# Altium schematic symbol library Nucleo-64-G474.SchLib: 1 symbol
Pins are listed as number, name and electrical type; pins without a type are passive.

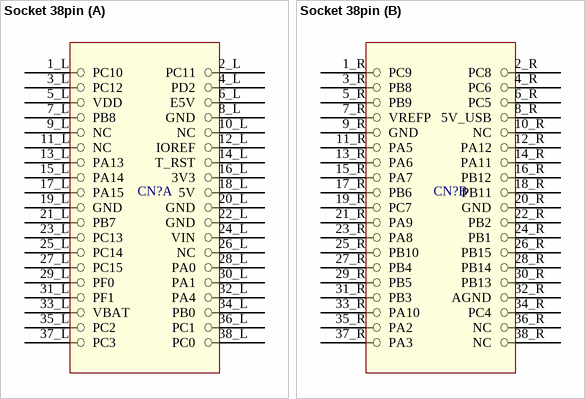
[diagram p0: symbol Socket 38pin]

## Socket 38pin
designator CN?
footprint Socket
part A pins: 1_L PC10, 2_L PC11, 3_L PC12, 4_L PD2, 5_L VDD, 6_L E5V, 7_L PB8, 8_L GND, 9_L NC, 10_L NC, 11_L NC, 12_L IOREF, 13_L PA13, 14_L T_RST, 15_L PA14, 16_L 3V3, 17_L PA15, 18_L 5V, 19_L GND, 20_L GND, 21_L PB7, 22_L GND, 23_L PC13, 24_L VIN, 25_L PC14, 26_L NC, 27_L PC15, 28_L PA0, 29_L PF0, 30_L PA1, 31_L PF1, 32_L PA4, 33_L VBAT, 34_L PB0, 35_L PC2, 36_L PC1, 37_L PC3, 38_L PC0
part B pins: 1_R PC9, 2_R PC8, 3_R PB8, 4_R PC6, 5_R PB9, 6_R PC5, 7_R VREFP, 8_R 5V_USB, 9_R GND, 10_R NC, 11_R PA5, 12_R PA12, 13_R PA6, 14_R PA11, 15_R PA7, 16_R PB12, 17_R PB6, 18_R PB11, 19_R PC7, 20_R GND, 21_R PA9, 22_R PB2, 23_R PA8, 24_R PB1, 25_R PB10, 26_R PB15, 27_R PB4, 28_R PB14, 29_R PB5, 30_R PB13, 31_R PB3, 32_R AGND, 33_R PA10, 34_R PC4, 35_R PA2, 36_R NC, 37_R PA3, 38_R NC